# Altium schematic symbol library pcap.SchLib: 1 symbol
Pins are listed as number, name and electrical type; pins without a type are passive.

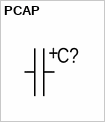
[diagram p0: symbol PCAP]

## PCAP
designator C?
pins: 1, 2
1 alternate drawing of the same symbol
text: +